# Altium footprint library LibreriaCircuitoInterfac_PCB.PcbLib: 4 footprints
Each footprint in its own frame and in the unit in brackets; x right, y up, seen from the top. Pads: shape width x height; smd on the part's side, far side on the other; paste and mask are expansions set on the pad; w line width, h text height; cw(c..) or ccw(c..) is an arc to the next point about the centre after c.
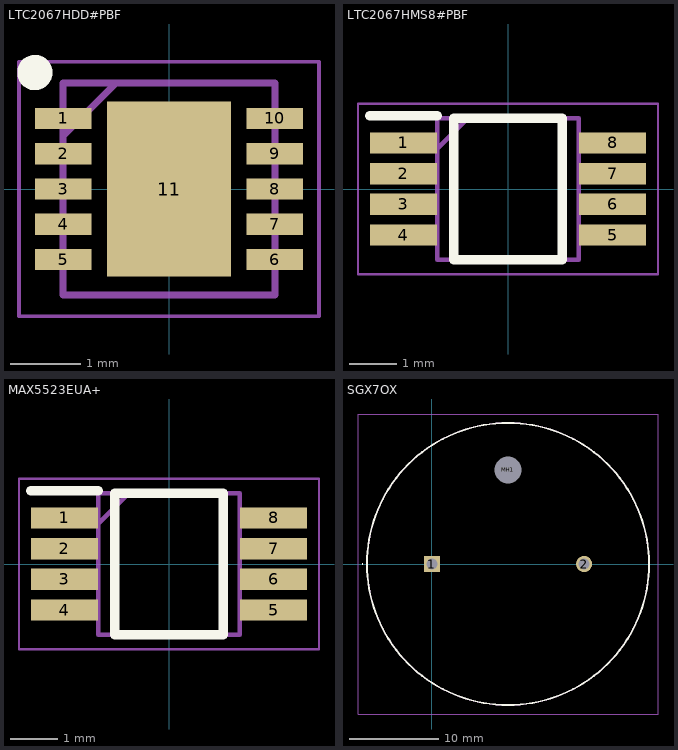
[diagram p0: the footprints below, top view; thin cyan lines are the x and y axes]

## LTC2067HDD#PBF [mm]
pads (11):
  rect 0.8x0.3 smd: 1(-1.5,1) 2(-1.5,0.5) 3(-1.5,0) 4(-1.5,-0.5) 5(-1.5,-1) 6(1.5,-1) 7(1.5,-0.5) 8(1.5,0) 9(1.5,0.5) 10(1.5,1)
  rect 1.75x2.48 smd: 11(0,0)
Top Overlay:
  circle w0.25: c-1.9,1.65 r0.125
Top 3D Body:
  lines w0.1: -1.5,0.75 -0.75,1.5 ; -1.5,-1.5 -1.5,1.5 1.5,1.5 1.5,-1.5 -1.5,-1.5
Top Courtyard:
  lines w0.05: -2.125,-1.8 -2.125,1.8 2.125,1.8 2.125,-1.8 -2.125,-1.8
3D body "LTC2067HDD#PBF.stp": height 0.8, standoff 0, extent -1.55,-1.5 1.55,1.5

## LTC2067HMS8#PBF [mm]
pads (8):
  rect 1.425x0.45 smd: 1(-2.212,0.975) 2(-2.212,0.325) 3(-2.212,-0.325) 4(-2.212,-0.975) 5(2.212,-0.975) 6(2.212,-0.325) 7(2.212,0.325) 8(2.212,0.975)
Top Overlay:
  lines w0.2: -2.925,1.55 -1.5,1.55 ; -1.15,-1.5 -1.15,1.5 1.15,1.5 1.15,-1.5 -1.15,-1.5
Top 3D Body:
  lines w0.1: -1.5,0.85 -0.85,1.5 ; -1.5,-1.5 -1.5,1.5 1.5,1.5 1.5,-1.5 -1.5,-1.5
Top Courtyard:
  lines w0.05: -3.175,-1.801 -3.175,1.801 3.175,1.801 3.175,-1.801 -3.175,-1.801
3D body "LTC2067HMS8#PBF.stp": height 1.1, standoff 0, extent -2.45,-1.5 2.45,1.5

## MAX5523EUA+ [mm]
pads (8):
  rect 1.425x0.45 smd: 1(-2.212,0.975) 2(-2.212,0.325) 3(-2.212,-0.325) 4(-2.212,-0.975) 5(2.212,-0.975) 6(2.212,-0.325) 7(2.212,0.325) 8(2.212,0.975)
Top Overlay:
  lines w0.2: -2.925,1.55 -1.5,1.55 ; -1.15,-1.5 1.15,-1.5 1.15,1.5 -1.15,1.5 -1.15,-1.5
Top 3D Body:
  lines w0.1: -1.5,0.85 -0.85,1.5 ; -1.5,-1.5 1.5,-1.5 1.5,1.5 -1.5,1.5 -1.5,-1.5
Top Courtyard:
  lines w0.05: -3.175,-1.801 3.175,-1.801 3.175,1.801 -3.175,1.801 -3.175,-1.801
3D body "LTC2067HMS8#PBF.stp": height 1.1, standoff 0, extent -2.45,-1.5 2.45,1.5

## SGX7OX [mm]
pads (3):
  rect 1.8x1.8 hole 1.2: 1(0,0)
  round 1.8 hole 1.2: 2(17,0)
  round 1.5 hole 3 unplated: MH1(8.5,10.5)
Top Overlay:
  lines w0.1: -7.8,0 cw(c-7.75,0) -7.7,0 cw(c-7.75,0) -7.8,0
  lines w0.2: 8.5,-15.75 ccw(c8.5,0) 8.5,15.75 ccw(c8.5,0) 8.5,-15.75
Top 3D Body:
  lines w0.1: 8.5,-15.75 ccw(c8.5,0) 8.5,15.75 ccw(c8.5,0) 8.5,-15.75
Top Courtyard:
  lines w0.1: -8.25,-16.75 -8.25,16.75 25.25,16.75 25.25,-16.75 -8.25,-16.75
3D body "SGX-7OX.stp": height 16.4, standoff -4.1, extent -7.241,-15.748 24.259,15.752